# EAGLE library part MI_DRIVER_HOOKUP (library Mechanical)
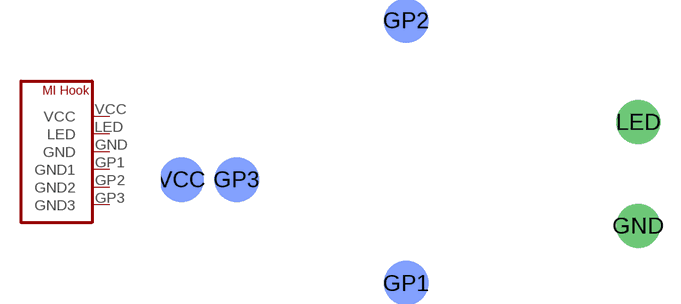
[diagram p92: symbol with the pads of MI_DRIVE_HOOKUP; footprint MI_DRIVE_HOOKUP]

Designator prefix -

## MI_DRIVER_HOOKUP  [MI_DRIVE_HOOKUP]
GND  GND
GP1  GND1
GP2  GND2
GP3  GND3
LED  LED
VCC  VCC

## Footprint MI_DRIVE_HOOKUP (pad centres in mm)
drill 2.2: GND 36.576,7.264; LED 36.576,14.884
smd 3.302 x 3.302 bottom: GP1 19.558,3.048; GP2 19.558,22.352; GP3 7.112,10.668; VCC 3.048,10.668